# Altium schematic symbol library buck_boost.SchLib: 4 symbols
Pins are listed as number, name and electrical type; pins without a type are passive.

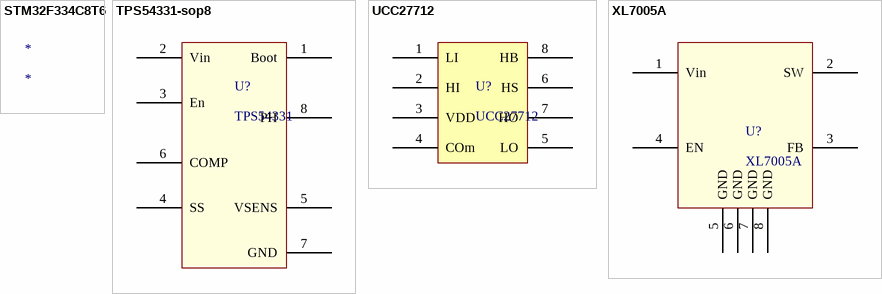
[diagram p0: symbols STM32F334C8T6 to XL7005A]

## STM32F334C8T6
designator *

## TPS54331-sop8
designator U?, comment TPS54331
footprint SOP8
pins: 1 Boot, 2 Vin, 3 En, 4 SS, 5 VSENS, 6 COMP, 7 GND, 8 PH

## UCC27712
designator U?
footprint SOP8
pins: 1 LI, 2 HI, 3 VDD, 4 COm, 5 LO, 6 HS, 7 HO, 8 HB

## XL7005A
designator U?
pins: 1 Vin, 2 SW, 3 FB, 4 EN, 5 GND, 6 GND, 7 GND, 8 GND